# Altium footprint library Capacitor - Electrolytic.PcbLib: 177 footprints (part 9 of 12)
Each footprint in its own frame and in the unit in brackets; x right, y up, seen from the top. Pads: shape width x height; smd on the part's side, far side on the other; paste and mask are expansions set on the pad; w line width, h text height; cw(c..) or ccw(c..) is an arc to the next point about the centre after c.
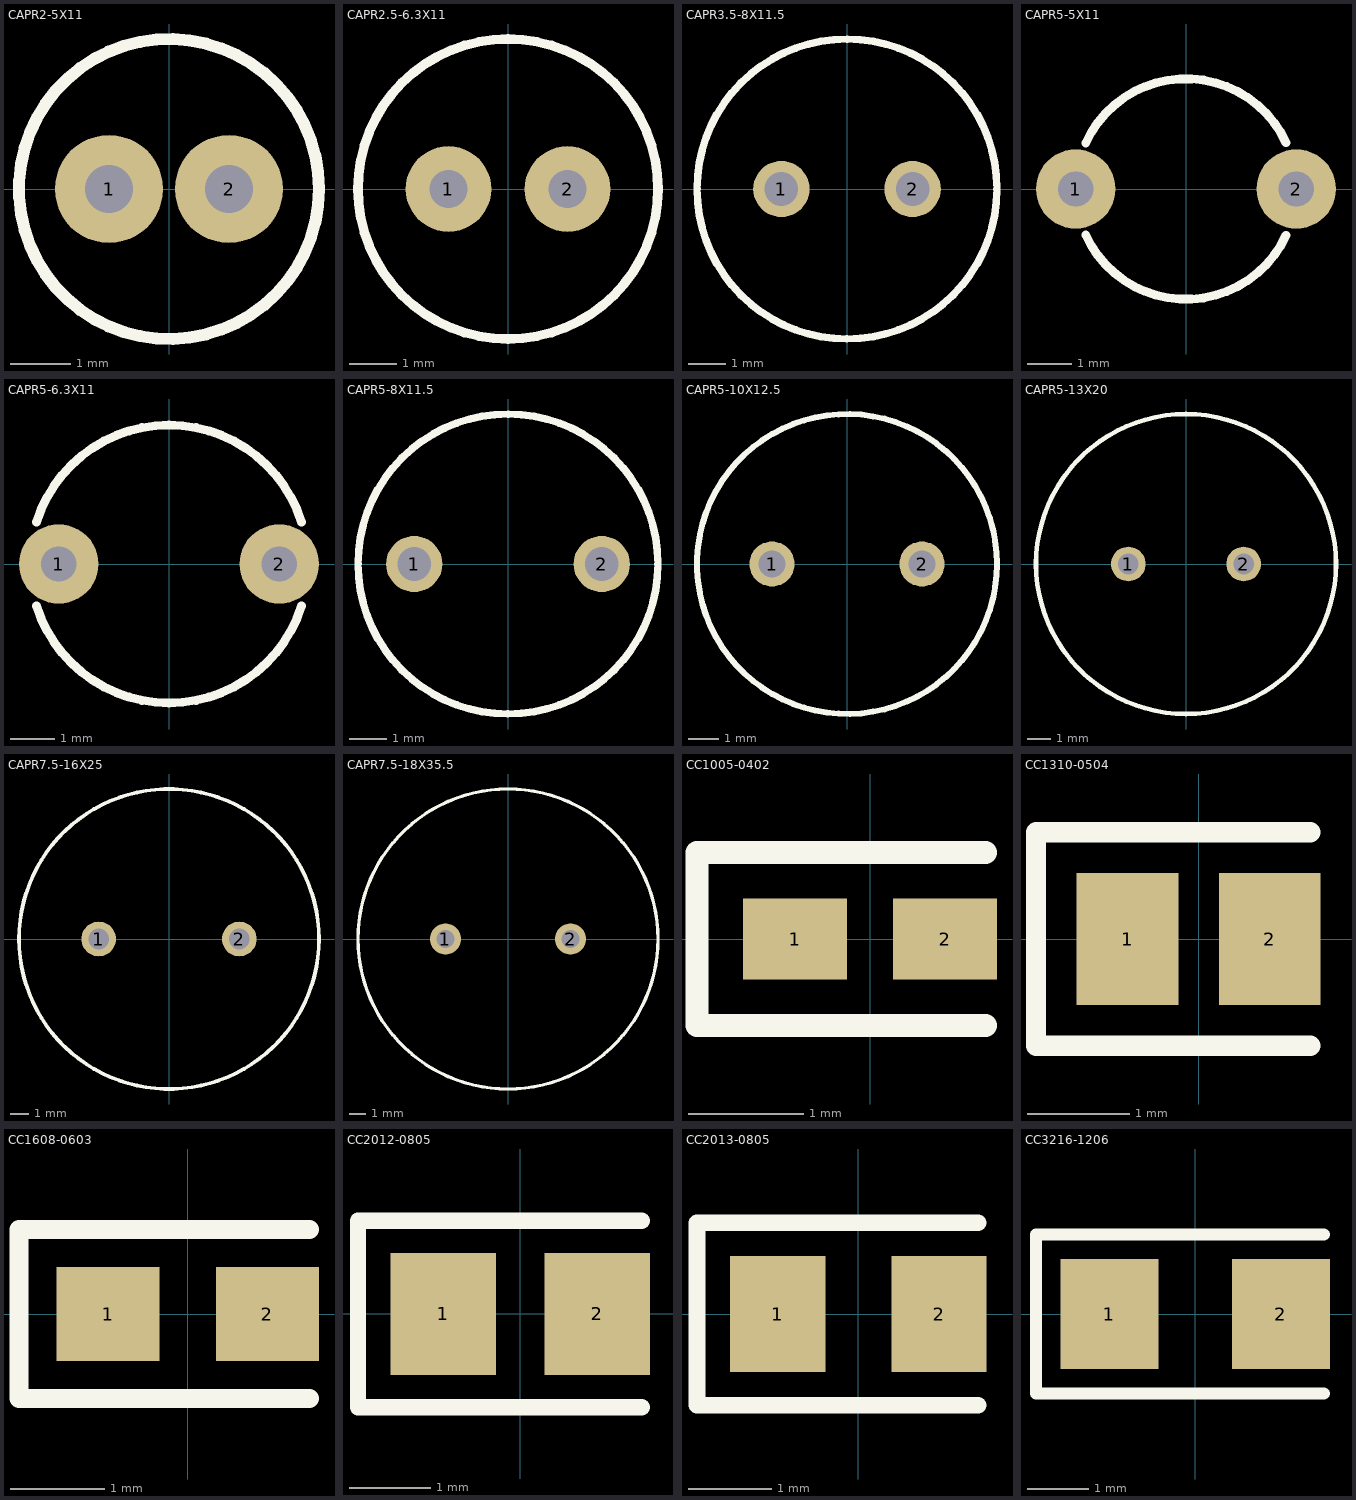
[diagram p8: the footprints below, top view; thin cyan lines are the x and y axes]

## CAPR2-5X11 [mm]
pads (2):
  round 1.8 hole 0.8: 1(-1,0) 2(1,0)
Top Overlay:
  circle w0.2: c0,0 r2.5
3D body: height 11, standoff 0.2, extent -2.499,-2.499 2.499,2.499

## CAPR2.5-6.3X11 [mm]
pads (2):
  round 1.8 hole 0.8: 1(-1.25,0) 2(1.25,0)
Top Overlay:
  circle w0.2: c0,0 r3.15
3D body: height 11, standoff 0.2, extent -3.149,-3.149 3.149,3.149

## CAPR3.5-8X11.5 [mm]
pads (2):
  round 1.5 hole 0.9: 1(-1.75,0) 2(1.75,0)
Top Overlay:
  circle w0.2: c0,0 r4
3D body: height 11.5, standoff 0.2, extent -3.999,-3.999 3.999,3.999

## CAPR5-5X11 [mm]
pads (2):
  round 1.8 hole 0.8: 1(-2.5,0) 2(2.5,0)
Top Overlay:
  lines w0.2: -2.274,-1.04 ccw(c0,0) 2.269,-1.05 ; -2.274,1.04 cw(c0,0) 2.269,1.05

## CAPR5-6.3X11 [mm]
pads (2):
  round 1.8 hole 0.8: 1(-2.5,0) 2(2.5,0)
Top Overlay:
  lines w0.2: -3.003,-0.95 ccw(c0,0) 3.003,-0.95 ; -3.003,0.95 cw(c0,0) 3.003,0.95

## CAPR5-8X11.5 [mm]
pads (2):
  round 1.5 hole 0.9: 1(-2.5,0) 2(2.5,0)
Top Overlay:
  circle w0.2: c0,0 r4
3D body: height 11.5, standoff 0.2, extent -3.999,-3.999 3.999,3.999

## CAPR5-10X12.5 [mm]
pads (2):
  round 1.5 hole 0.9: 1(-2.5,0) 2(2.5,0)
Top Overlay:
  circle w0.2: c0,0 r5
3D body: height 12.5, standoff 0.2, extent -4.999,-4.999 4.999,4.999

## CAPR5-13X20 [mm]
pads (2):
  round 1.5 hole 0.9: 1(-2.5,0) 2(2.5,0)
Top Overlay:
  circle w0.2: c0,0 r6.5
3D body: height 20, standoff 0.2, extent -6.499,-6.499 6.499,6.499

## CAPR7.5-16X25 [mm]
pads (2):
  round 1.85 hole 1.1: 1(-3.75,0) 2(3.75,0)
Top Overlay:
  circle w0.2: c0,0 r8
3D body: height 16, standoff 0.2, extent -8,-8 8,8

## CAPR7.5-18X35.5 [mm]
pads (2):
  round 1.85 hole 1.1: 1(-3.75,0) 2(3.75,0)
Top Overlay:
  circle w0.2: c0,0 r9
3D body: height 35.5, standoff 0.2, extent -8.999,-8.999 8.999,8.999

## CC1005-0402 [mm]
pads (2):
  rect 0.9x0.7 smd: 1(-0.65,0) 2(0.65,0)
Top Overlay:
  lines w0.2: 1,-0.75 -1.5,-0.75 -1.5,0.75 1,0.75
3D body "CC0402.STEP": height 0.3, standoff 0, extent -0.5,-0.25 0.5,0.25

## CC1310-0504 [mm]
pads (2):
  rect 1x1.3 smd: 1(-0.7,0) 2(0.7,0)
Top Overlay:
  lines w0.2: 1.1,-1.05 -1.6,-1.05 -1.6,1.05 1.1,1.05

## CC1608-0603 [mm]
pads (2):
  rect 1.1x1 smd: 1(-0.85,0) 2(0.85,0)
Top Overlay:
  lines w0.2: 1.3,-0.9 -1.8,-0.9 -1.8,0.9 1.3,0.9
3D body "CC0603.STEP": height 0.3, standoff 0, extent -0.8,-0.4 0.8,0.4

## CC2012-0805 [mm]
pads (2):
  rect 1.3x1.5 smd: 1(-0.95,0) 2(0.95,0)
Top Overlay:
  lines w0.2: 1.5,-1.15 -2,-1.15 -2,1.15 1.5,1.15
3D body "CC0805.STEP": height 0.5, standoff 0, extent -1,-0.625 1,0.625

## CC2013-0805 [mm]
pads (2):
  rect 1.15x1.4 smd: 1(-0.975,0) 2(0.975,0)
Top Overlay:
  lines w0.2: 1.45,-1.1 -1.95,-1.1 -1.95,1.1 1.45,1.1
3D body "CC0805.STEP": height 0.5, standoff 0, extent -1,-0.625 1,0.625

## CC3216-1206 [mm]
pads (2):
  rect 1.6x1.8 smd: 1(-1.4,0) 2(1.4,0)
Top Overlay:
  lines w0.2: 2.1,-1.3 -2.6,-1.3 -2.6,1.3 2.1,1.3
3D body "CC1206.STEP": height 0.5, standoff 0, extent -1,-0.625 1,0.625